# Altium footprint library libreriaPcb.PcbLib: 683 footprints (part 18 of 44)
Each footprint in its own frame and in the unit in brackets; x right, y up, seen from the top. Pads: shape width x height; smd on the part's side, far side on the other; paste and mask are expansions set on the pad; w line width, h text height; cw(c..) or ccw(c..) is an arc to the next point about the centre after c.
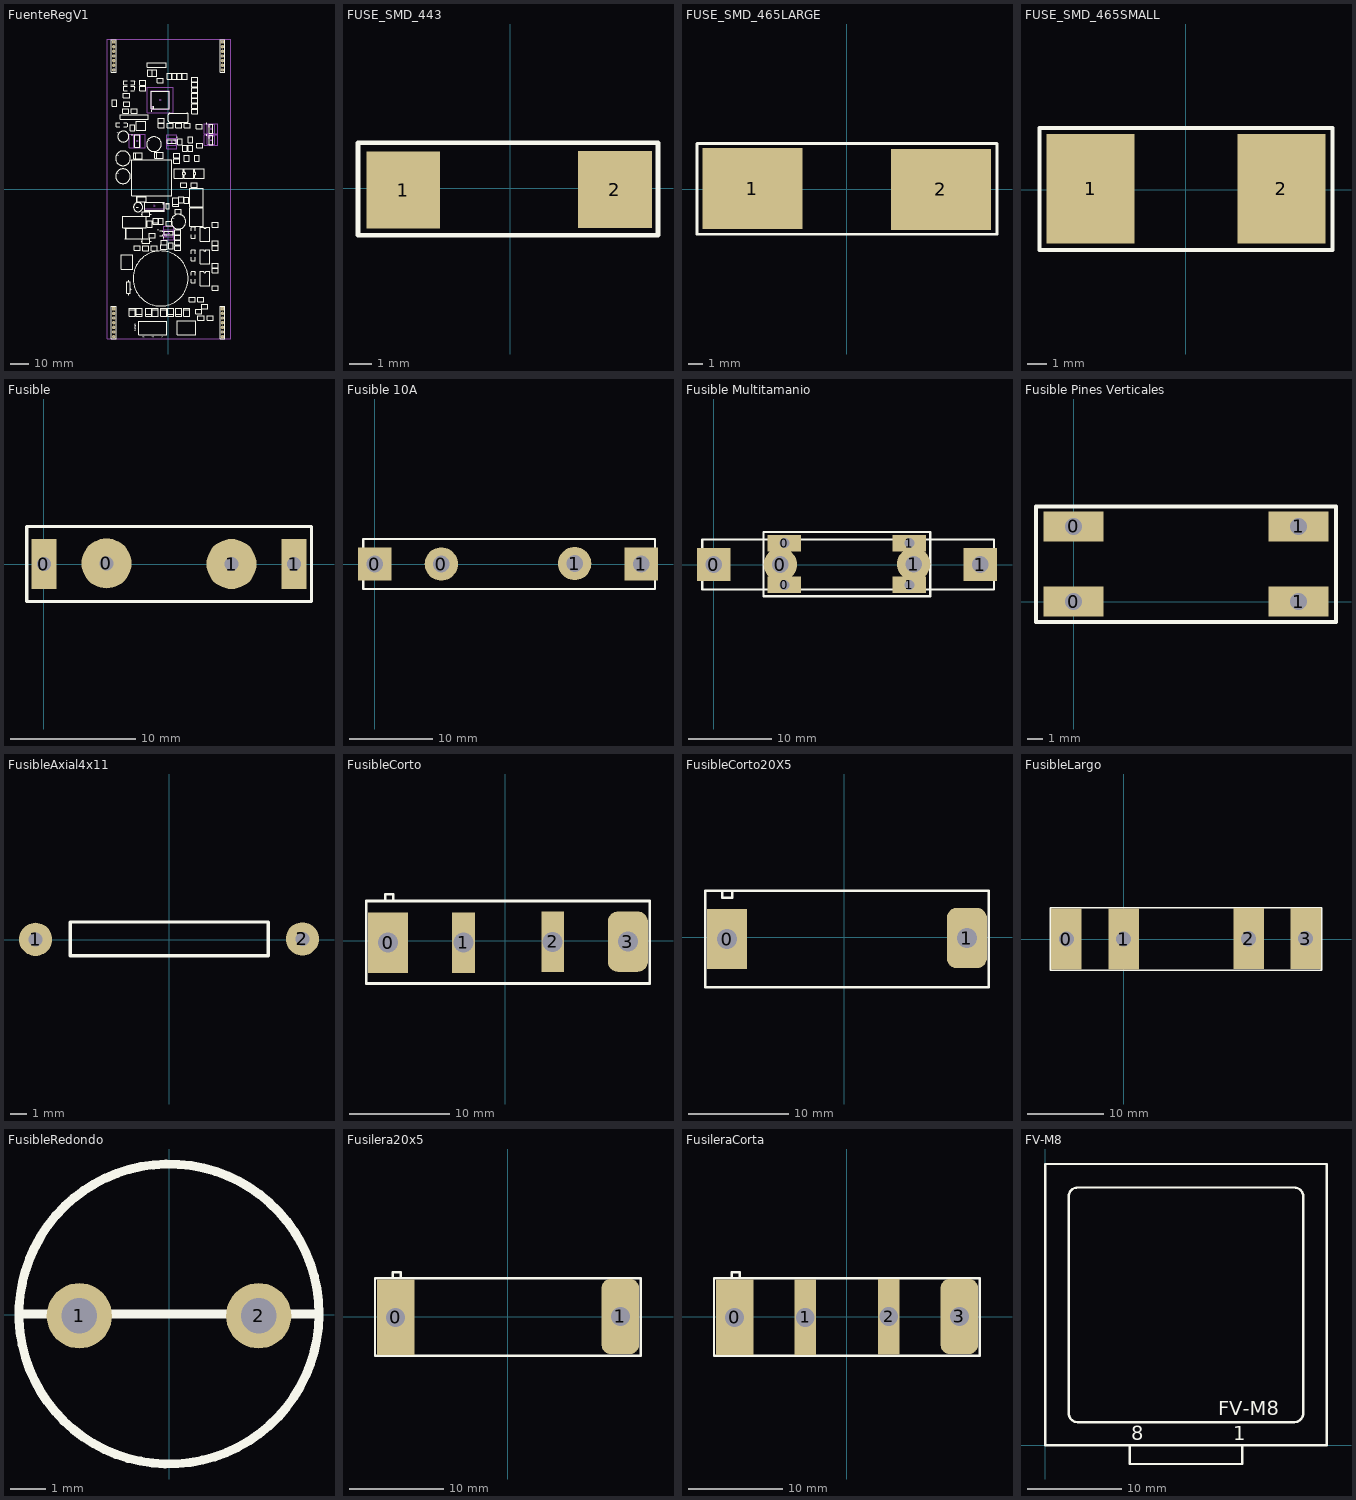
[diagram p17: the footprints below, top view; thin cyan lines are the x and y axes]

## FuenteRegV1 [mm]
pads (28):
  rect 1.85x1.85 hole 0.9: 1(-29.654,80.391) 8(-29.654,-65.151) 15(29.654,80.391) 22(29.654,-65.151)
  round 1.85 hole 0.9: 2(-29.654,77.851) 3(-29.654,75.311) 4(-29.654,72.771) 5(-29.654,70.231) 6(-29.654,67.691) 7(-29.654,65.151) 9(-29.654,-67.691) 10(-29.654,-70.231) 11(-29.654,-72.771) 12(-29.654,-75.311) 13(-29.654,-77.851) 14(-29.654,-80.391) 16(29.654,77.851) 17(29.654,75.311) 18(29.654,72.771) 19(29.654,70.231) 20(29.654,67.691) 21(29.654,65.151) 23(29.654,-67.691) 24(29.654,-70.231) 25(29.654,-72.771) 26(29.654,-75.311) 27(29.654,-77.851) 28(29.654,-80.391)
Bottom Layer:
  lines w1.5: -29.654,65.151 -29.527,65.278
Top Overlay:
  drawing of 656 lines, arcs and shapes, not listed
  text "+" at 2.629,-16.438 h0.75
  text "+" at -10.706,25.853 h0.75
  text "+" at -27.597,18.106 h0.75
  text "+" at -27.597,8.327 h0.75
  text "+" at -28.045,30.329 h0.75
  text "+" at -19.241,-54.102 h1.5
  text "V" at -2.603,-80.899 h0.75
  text "A" at -7.81,-80.899 h0.75
  text "R" at -12.763,-80.899 h0.75
  text "FASES" at -17.462,-77.47 h0.75
Mechanical 1:
  lines w0.254: -33.21,-81.661 -33.21,82.042 34.227,82.042 34.227,-81.661 -33.21,-81.661
Mechanical 13:
  circle w0.1: c3.645,27.085 r0.5
  circle w0.1: c-1.232,-24.926 r0.5
  circle w0.1: c-8.354,44.668 r0.5
  circle w0.1: c22.407,28.474 r0.5
  circle w0.1: c22.407,34.697 r0.5
  lines w0.1: -12.78,-10.567 -2.079,-10.567 ; -18.677,23.066 -18.677,29.766 -14.977,29.766 -14.977,23.066 -18.677,23.066 ; -12.78,-11.867 -2.079,-11.867 -2.079,-7.167 -12.78,-7.167 -12.78,-11.867 ; -9.255,43.768 0.746,43.768 0.746,53.768 -9.255,53.768 -9.255,43.768 ; -2.133,-25.826 -2.133,-21.926 2.768,-21.926 2.768,-25.826 -2.133,-25.826 ; -0.355,24.085 -0.355,27.985 4.546,27.985 4.546,24.085 -0.355,24.085 ; 21.507,24.474 21.507,29.374 25.407,29.374 25.407,24.474 21.507,24.474 ; 21.507,30.697 21.507,35.597 25.407,35.597 25.407,30.697 21.507,30.697
Mechanical 15:
  lines w0.1: -17.327,26.416 -16.327,26.416 ; -16.828,25.916 -16.828,26.916 ; -7.929,-9.017 -6.929,-9.017 ; -7.429,-9.517 -7.429,-8.517 ; -4.755,48.768 -3.755,48.768 ; -4.255,48.268 -4.255,49.268 ; -0.182,-23.876 0.817,-23.876 ; 0.318,-24.376 0.318,-23.376 ; 1.596,26.035 2.595,26.035 ; 2.095,25.535 2.095,26.535 ; 22.957,26.924 23.957,26.924 ; 22.957,33.147 23.957,33.147 ; 23.457,26.424 23.457,27.424 ; 23.457,32.647 23.457,33.647 ; -21.177,22.816 -21.177,30.016 -12.477,30.016 -12.477,22.816 -21.177,22.816 ; -11.255,41.768 2.745,41.768 2.745,55.768 -11.255,55.768 -11.255,41.768 ; -2.432,-27.626 -2.432,-20.126 3.067,-20.126 3.067,-27.626 -2.432,-27.626 ; -0.654,22.285 -0.654,29.785 4.845,29.785 4.845,22.285 -0.654,22.285 ; 19.707,24.174 19.707,29.674 27.207,29.674 27.207,24.174 19.707,24.174 ; 19.707,30.397 19.707,35.897 27.207,35.897 27.207,30.397 19.707,30.397
3D body: height 0.5, standoff 0, extent -33.337,-81.788 34.353,82.169
3D body: height 1, standoff 0, extent -23.969,50.508 -21.37,52.108
3D body: height 1, standoff 0, extent -8.23,62.2 -6.63,64.8
3D body: height 1, standoff 0, extent -8.23,61.9 -6.63,62.2
3D body: height 1, standoff 0, extent -8.23,64.8 -6.63,65.1
3D body: height 1, standoff 0, extent -10.77,62.2 -9.17,64.8
3D body: height 1, standoff 0, extent -10.77,61.9 -9.17,62.2
3D body: height 1, standoff 0, extent -10.77,64.8 -9.17,65.1
3D body: height 1, standoff 0, extent 15.782,33.49 18.381,35.09
3D body: height 1, standoff 0, extent 15.482,33.49 15.782,35.09
3D body: height 1, standoff 0, extent 18.381,33.49 18.681,35.09
3D body: height 1, standoff 0, extent 16.036,23.076 18.635,24.676
3D body: height 1, standoff 0, extent 15.736,23.076 16.036,24.676
3D body: height 1, standoff 0, extent 18.635,23.076 18.935,24.676
3D body: height 1, standoff 0, extent -19.778,41.872 -17.179,43.472
3D body: height 1, standoff 0, extent -17.179,41.872 -16.879,43.472
3D body: height 1, standoff 0, extent -20.078,41.872 -19.778,43.472
3D body: height 3, standoff 0, extent -16.157,-79.507 -0.83,-71.753
3D body: height 12, standoff 0, extent -16.03,-79.287 -0.83,-78.88
3D body: height 12, standoff 0, extent -16.03,-72.98 -11.016,-71.843
3D body: height 12, standoff 0, extent -11.03,-72.98 -6.016,-71.843
3D body: height 12, standoff 0, extent -6.03,-72.98 -1.016,-71.843
3D body: height 10, standoff -2, extent -14.224,-76.078 -12.83,-74.681
3D body: height 10, standoff -2, extent -9.224,-76.132 -7.83,-74.735
3D body: height 10, standoff -2, extent -4.224,-76.078 -2.83,-74.681
3D body: height 11.8, standoff 0, extent 1.661,-21.62 9.629,-13.635
3D body: height 12, standoff 0, extent 1.76,-21.52 9.529,-13.735
3D body: height 11.8, standoff 0, extent 9.601,-18.212 9.804,-17.018
3D body: height 1, standoff 0, extent 4.215,-12.869 6.815,-11.269
3D body: height 1, standoff 0, extent 6.815,-12.869 7.115,-11.269
3D body: height 1, standoff 0, extent 3.915,-12.869 4.215,-11.269
3D body: height 1, standoff 0, extent -18.245,-32.927 -15.645,-31.327
3D body: height 1, standoff 0, extent -18.545,-32.927 -18.245,-31.327
3D body: height 1, standoff 0, extent -15.645,-32.927 -15.345,-31.327
3D body: height 11.8, standoff 0, extent -11.674,20.671 -3.706,28.656
3D body: height 12, standoff 0, extent -11.575,20.771 -3.806,28.556
3D body: height 11.8, standoff 0, extent -3.734,24.079 -3.531,25.273
3D body: height 11.8, standoff 0, extent -28.565,12.924 -20.597,20.909
3D body: height 12, standoff 0, extent -28.466,13.024 -20.697,20.809
3D body: height 11.8, standoff 0, extent -20.625,16.332 -20.422,17.526
3D body: height 11.8, standoff 0, extent -28.565,3.145 -20.597,11.13
3D body: height 12, standoff 0, extent -28.466,3.245 -20.697,11.03
3D body: height 11.8, standoff 0, extent -20.625,6.553 -20.422,7.747
3D body: height 10.1, standoff 0, extent -21.644,27.879 -21.344,29.879
3D body: height 10.1, standoff 0, extent -26.725,26.434 -21.944,31.224
3D body: height 10, standoff 0, extent -27.421,25.835 -21.444,31.823
3D body: height 1, standoff 0, extent 5.721,24.328 7.321,24.628
3D body: height 1, standoff 0, extent 5.721,27.228 7.321,27.528
3D body: height 1, standoff 0, extent 5.721,24.628 7.321,27.228
3D body: height 1, standoff 0, extent 11.309,25.471 12.909,25.771
3D body: height 1, standoff 0, extent 11.309,28.371 12.909,28.671
3D body: height 1, standoff 0, extent 11.309,25.771 12.909,28.371
3D body: height 1, standoff 0, extent 6.395,-4.435 7.995,-4.135
3D body: height 1, standoff 0, extent 6.395,-7.335 7.995,-7.035
3D body: height 1, standoff 0, extent 6.395,-7.035 7.995,-4.435
3D body: height 1, standoff 0, extent -3.513,-29.879 -0.913,-28.279
3D body: height 1, standoff 0, extent -3.813,-29.879 -3.513,-28.279
3D body: height 1, standoff 0, extent -0.913,-29.879 -0.613,-28.279
3D body: height 1, standoff 0, extent 4.088,-27.093 6.688,-25.493
3D body: height 1, standoff 0, extent 6.688,-27.093 6.988,-25.493
3D body: height 1, standoff 0, extent 3.788,-27.093 4.088,-25.493
3D body: height 1, standoff 0, extent 4.088,-32.808 6.688,-31.208
3D body: height 1, standoff 0, extent 6.688,-32.808 6.988,-31.208
3D body: height 1, standoff 0, extent 3.788,-32.808 4.088,-31.208
3D body: height 1, standoff 0, extent 4.088,-24.172 6.688,-22.572
3D body: height 1, standoff 0, extent 6.688,-24.172 6.988,-22.572
3D body: height 1, standoff 0, extent 3.788,-24.172 4.088,-22.572
3D body: height 2, standoff 0, extent -21.171,-69.461 -18.072,-64.661
3D body: height 2, standoff 0, extent -8.471,-69.461 -5.372,-64.661
3D body: height 2, standoff 0, extent -3.899,-69.461 -0.8,-64.661
3D body: height 2, standoff 0, extent -12.027,-69.451 -8.928,-64.651
3D body: height 2, standoff 0, extent 4.356,-69.451 7.455,-64.651
3D body: height 2, standoff 0, extent 8.547,-69.461 11.646,-64.661
3D body: height 2, standoff 0, extent -17.361,-69.451 -14.262,-64.651
3D body: height 2, standoff 0, extent -0.089,-69.451 3.01,-64.651
3D body: height 2, standoff 0, extent -9.25,-5.684 -8.65,-5.084
3D body: height 2, standoff 0, extent -20.65,-5.684 -20.05,-5.084
3D body: height 2.3, standoff 1.7, extent -20.35,-5.681 -8.85,-5.084
3D body: height 3.4, standoff 0.6, extent -16.659,-6.734 -15.659,-3.934
3D body: height 3.25, standoff 0.75, extent -17.158,-6.584 -12.158,-4.084
3D body: height 1, standoff 0, extent -7.525,-18.808 -5.925,-16.208
3D body: height 1, standoff 0, extent -7.525,-19.108 -5.925,-18.808
3D body: height 1, standoff 0, extent -7.525,-16.208 -5.925,-15.908
3D body: height 2, standoff 0, extent 2.578,-9.38 5.677,-4.58
3D body: height 2, standoff 0, extent -7.285,16.992 -2.485,20.092
3D body: height 2, standoff 0, extent -18.715,16.865 -13.915,19.965
3D body: height 10, standoff -2, extent 14.686,-13.394 16.083,-12
3D body: height 10, standoff -2, extent 14.632,-18.394 16.029,-17
3D body: height 12, standoff 0, extent 11.794,-15.2 12.93,-10.186
3D body: height 12, standoff 0, extent 11.794,-20.2 12.93,-15.186
3D body: height 12, standoff 0, extent 18.831,-20.2 19.238,-10.1
3D body: height 3, standoff 0, extent 11.703,-20.327 19.457,-10.1
3D body: height 10, standoff -2, extent 14.686,-2.726 16.083,-1.332
3D body: height 10, standoff -2, extent 14.632,-7.726 16.029,-6.332
3D body: height 12, standoff 0, extent 11.794,-4.532 12.93,0.482
3D body: height 12, standoff 0, extent 11.794,-9.532 12.93,-4.518
3D body: height 12, standoff 0, extent 18.831,-9.532 19.238,0.568
3D body: height 3, standoff 0, extent 11.703,-9.659 19.457,0.568
3D body: height 1, standoff 0, extent 12.941,-25.4 14.567,-22.098
3D body: height 1, standoff 0, extent 12.941,-37.719 14.567,-34.417
3D body: height 1, standoff 0, extent 12.941,-49.657 14.567,-46.355
3D body: height 3, standoff 0, extent 5.01,-79.465 15.236,-71.711
3D body: height 12, standoff 0, extent 5.137,-79.245 15.236,-78.838
3D body: height 12, standoff 0, extent 5.137,-72.938 10.15,-71.801
3D body: height 12, standoff 0, extent 10.137,-72.938 15.15,-71.801
3D body: height 10, standoff -2, extent 6.942,-76.036 8.337,-74.639
3D body: height 10, standoff -2, extent 11.942,-76.09 13.337,-74.693
3D body: height 3, standoff 0, extent 8.752,5.909 14.139,11.443
3D body: height 3, standoff 0, extent 3.133,5.829 8.52,11.363
3D body: height 3, standoff 0, extent 14.34,5.909 19.727,11.443
3D body: height 1, standoff 0, extent 24.545,-20.104 27.144,-18.504
3D body: height 1, standoff 0, extent 24.245,-20.104 24.545,-18.504
3D body: height 1, standoff 0, extent 27.144,-20.104 27.444,-18.504
3D body: height 1, standoff 0, extent 24.545,-32.804 27.144,-31.204
3D body: height 1, standoff 0, extent 24.245,-32.804 24.545,-31.204
3D body: height 1, standoff 0, extent 27.144,-32.804 27.444,-31.204
3D body: height 1, standoff 0, extent 24.545,-44.996 27.144,-43.396
3D body: height 1, standoff 0, extent 24.245,-44.996 24.545,-43.396
3D body: height 1, standoff 0, extent 27.144,-44.996 27.444,-43.396
3D body: height 1, standoff 0, extent 24.545,-30.137 27.144,-28.537
3D body: height 1, standoff 0, extent 24.245,-30.137 24.545,-28.537
3D body: height 1, standoff 0, extent 27.144,-30.137 27.444,-28.537
3D body: height 1, standoff 0, extent 24.545,-42.329 27.144,-40.729
3D body: height 1, standoff 0, extent 24.245,-42.329 24.545,-40.729
3D body: height 1, standoff 0, extent 27.144,-42.329 27.444,-40.729
3D body: height 1, standoff 0, extent 24.545,-54.521 27.144,-52.921
3D body: height 1, standoff 0, extent 24.245,-54.521 24.545,-52.921
3D body: height 1, standoff 0, extent 27.144,-54.521 27.444,-52.921
3D body: height 1, standoff 0, extent 11.971,-60.998 14.572,-59.398
3D body: height 1, standoff 0, extent 11.672,-60.998 11.972,-59.398
3D body: height 1, standoff 0, extent 14.571,-60.998 14.871,-59.398
3D body: height 1, standoff 0, extent 16.544,-60.998 19.143,-59.398
3D body: height 1, standoff 0, extent 16.244,-60.998 16.544,-59.398
3D body: height 1, standoff 0, extent 19.143,-60.998 19.443,-59.398
3D body: height 1, standoff 0, extent 15.528,-67.348 18.127,-65.748
3D body: height 1, standoff 0, extent 15.228,-67.348 15.528,-65.748
3D body: height 1, standoff 0, extent 18.127,-67.348 18.427,-65.748
3D body: height 1, standoff 0, extent 18.703,-64.681 21.302,-63.081
3D body: height 1, standoff 0, extent 18.403,-64.681 18.703,-63.081
3D body: height 1, standoff 0, extent 21.302,-64.681 21.602,-63.081
3D body: height 1, standoff 0, extent 16.671,-71.031 19.27,-69.431
3D body: height 1, standoff 0, extent 16.371,-71.031 16.671,-69.431
3D body: height 1, standoff 0, extent 19.27,-71.031 19.57,-69.431
3D body: height 1, standoff 0, extent 21.624,-71.031 24.223,-69.431
3D body: height 1, standoff 0, extent 21.324,-71.031 21.624,-69.431
3D body: height 1, standoff 0, extent 24.223,-71.031 24.523,-69.431
3D body: height -1.01, standoff -3, extent -14.466,-29.394 -9.466,-27.398
3D body: height 1, standoff 0, extent -8.729,-32.931 -6.13,-31.331
3D body: height 1, standoff 0, extent -9.029,-32.931 -8.729,-31.331
3D body: height 1, standoff 0, extent -6.13,-32.931 -5.83,-31.331
3D body: height 1, standoff 0, extent -13.428,-32.931 -10.829,-31.331
3D body: height 1, standoff 0, extent -10.829,-32.931 -10.529,-31.331
3D body: height 1, standoff 0, extent -13.728,-32.931 -13.428,-31.331
3D body: height 1, standoff 0, extent -9.999,-26.073 -7.4,-24.473
3D body: height 1, standoff 0, extent -10.299,-26.073 -9.999,-24.473
3D body: height 1, standoff 0, extent -7.4,-26.073 -7.1,-24.473
3D body: height -1, standoff -3, extent -14.466,-14.664 -9.466,-12.664
3D body: height 1, standoff 0, extent -4.673,-18.826 -3.073,-16.226
3D body: height 1, standoff 0, extent -4.673,-16.226 -3.073,-15.926
3D body: height 1, standoff 0, extent -4.673,-19.126 -3.073,-18.826
3D body: height 7.4, standoff 6, extent -16.77,-10.052 -15.97,-9.252
3D body: height 17.9, standoff 17.1, extent -21.218,-10.103 -16.218,-9.306
3D body: height 18, standoff 0, extent -21.189,-10.052 -20.39,-9.255
3D body: height 15, standoff 0, extent -18.865,-12.152 -13.875,-7.172
3D body: height 1, standoff 0, extent 3.336,14.567 5.935,16.167
3D body: height 1, standoff 0, extent 3.036,14.567 3.336,16.167
3D body: height 1, standoff 0, extent 5.935,14.567 6.235,16.167
3D body: height 1, standoff 0, extent 3.336,17.615 5.935,19.215
3D body: height 1, standoff 0, extent 5.935,17.615 6.235,19.215
3D body: height 1, standoff 0, extent 3.036,17.615 3.336,19.215
3D body: height 1, standoff 0, extent 11.328,21.179 12.928,23.779
3D body: height 1, standoff 0, extent 11.328,20.879 12.928,21.179
3D body: height 1, standoff 0, extent 11.328,23.779 12.928,24.079
3D body: height 1, standoff 0, extent 8.407,21.179 10.007,23.779
3D body: height 1, standoff 0, extent 8.407,20.879 10.007,21.179
3D body: height 1, standoff 0, extent 8.407,23.779 10.007,24.079
3D body: height 1, standoff 0, extent -20.167,32.228 -18.567,34.828
3D body: height 1, standoff 0, extent -20.167,34.828 -18.567,35.128
3D body: height 1, standoff 0, extent -20.167,31.928 -18.567,32.228
3D body: height 1, standoff 0, extent 9.297,-7.142 10.897,-4.542
3D body: height 1, standoff 0, extent 9.297,-4.542 10.897,-4.242
3D body: height 1, standoff 0, extent 9.297,-7.442 10.897,-7.142
3D body: height 1, standoff 0, extent 7.273,1.613 9.872,3.213
3D body: height 1, standoff 0, extent 6.973,1.613 7.273,3.213
3D body: height 1, standoff 0, extent 9.872,1.613 10.172,3.213
3D body: height 1, standoff 0, extent 12.988,1.486 15.587,3.086
3D body: height 1, standoff 0, extent 12.688,1.486 12.988,3.086
3D body: height 1, standoff 0, extent 15.587,1.486 15.887,3.086
3D body: height 1, standoff 0, extent 9.424,15.591 11.024,18.191
3D body: height 1, standoff 0, extent 9.424,18.191 11.024,18.491
3D body: height 1, standoff 0, extent 9.424,15.291 11.024,15.591
3D body: height 1, standoff 0, extent 14.885,15.591 16.485,18.191
3D body: height 1, standoff 0, extent 14.885,18.191 16.485,18.491
3D body: height 1, standoff 0, extent 14.885,15.291 16.485,15.591
3D body: height 1.8, standoff -0.4, extent -22.601,-56.591 -20.401,-50.591
3D body: height 1.1, standoff 0.3, extent -21.907,-50.495 -21.108,-48.495
3D body: height 1, standoff 0, extent -21.826,-48.814 -21.226,-48.214
3D body: height 1, standoff 0, extent -21.826,-58.974 -21.226,-58.374
3D body: height 1.1, standoff 0.3, extent -21.945,-58.683 -21.145,-56.683
3D body: height 1, standoff 0, extent -3.822,-32.296 -3.522,-30.696
3D body: height 1, standoff 0, extent -0.923,-32.296 -0.623,-30.696
3D body: height 1, standoff 0, extent -3.522,-32.296 -0.923,-30.696
3D body: height 1, standoff 0, extent -10.769,-20.223 -9.169,-17.623
3D body: height 1, standoff 0, extent -10.769,-17.623 -9.169,-17.323
3D body: height 1, standoff 0, extent -10.769,-20.523 -9.169,-20.223
3D body: height 1, standoff 0, extent 6.697,-29.883 6.997,-28.283
3D body: height 1, standoff 0, extent 3.798,-29.883 4.098,-28.283
3D body: height 1, standoff 0, extent 4.098,-29.883 6.697,-28.283
3D body: height 1, standoff 0, extent 0.788,-32.334 2.388,-32.034
3D body: height 1, standoff 0, extent 0.788,-29.434 2.388,-29.134
3D body: height 1, standoff 0, extent 0.788,-32.034 2.388,-29.434
3D body: height 11.2, standoff 9.8, extent -23.504,-24.743 -13.504,-23.343
3D body: height 11, standoff 9, extent -14.714,-24.728 -13.314,-23.328
3D body: height 8, standoff 7, extent -16.689,-26.721 -11.29,-21.321
3D body: height 9, standoff 0, extent -16.613,-26.628 -11.415,-21.428
3D body: height 11, standoff 0, extent -23.831,-24.779 -22.434,-23.379
3D body: height 10, standoff 1, extent -19.967,-3.554 2.267,16.19
3D body: height 8, standoff 0, extent -24.93,-20.93 -11.773,-14.808
3D body: height 2.2, standoff 0, extent -24.215,-44.026 -20.666,-43.726
3D body: height 2.3, standoff 0, extent -25.565,-43.726 -19.34,-35.751
3D body: height 2.2, standoff 0, extent -24.165,-35.726 -20.616,-35.426
3D body: height 1, standoff 0, extent -26.987,34.392 -23.685,36.017
3D body: height 1, standoff 0, extent -0.738,-19.346 1.862,-17.746
3D body: height 1, standoff 0, extent 1.862,-19.346 2.162,-17.746
3D body: height 1, standoff 0, extent -1.038,-19.346 -0.738,-17.746
3D body: height 1, standoff 0, extent -0.99,-10.629 0.609,-10.329
3D body: height 1, standoff 0, extent -0.99,-7.73 0.61,-7.43
3D body: height 1, standoff 0, extent -0.99,-10.33 0.61,-7.73
3D body: height 1.1, standoff 0, extent -0.99,-8.142 0.61,-7.767
3D body: height 24, standoff 0, extent -19.167,-63.875 10.833,-33.884
3D body: height 24, standoff 0.2, extent 10.63,-50.114 11.062,-46.838
3D body: height 25, standoff 24, extent -18.275,-62.89 9.725,-34.898
3D body: height 1, standoff 0, extent 9.197,34.018 11.797,35.618
3D body: height 1, standoff 0, extent 11.797,34.018 12.097,35.618
3D body: height 1, standoff 0, extent 8.897,34.018 9.197,35.618
3D body: height 1, standoff 0, extent -0.24,33.978 2.36,35.578
3D body: height 1, standoff 0, extent -0.54,33.978 -0.24,35.578
3D body: height 1, standoff 0, extent 2.36,33.978 2.66,35.578
3D body: height 1, standoff 0, extent -4.9,34.018 -2.3,35.618
3D body: height 1, standoff 0, extent -2.3,34.018 -2,35.618
3D body: height 1, standoff 0, extent -5.2,34.018 -4.9,35.618
3D body: height 1, standoff 0, extent -5.535,58.656 -2.935,60.256
3D body: height 1, standoff 0, extent -2.935,58.656 -2.635,60.256
3D body: height 1, standoff 0, extent -5.835,58.656 -5.535,60.256
3D body: height 1, standoff 0, extent -4.9,36.685 -2.3,38.285
3D body: height 1, standoff 0, extent -2.3,36.685 -2,38.285
3D body: height 1, standoff 0, extent -5.2,36.685 -4.9,38.285
3D body: height 1, standoff 0, extent -24.497,41.852 -21.897,43.452
3D body: height 1, standoff 0, extent -24.797,41.852 -24.497,43.452
3D body: height 1, standoff 0, extent -21.897,41.852 -21.597,43.452
3D body: height 1, standoff 0, extent -22.924,54.204 -19.621,55.829
3D body: height 1, standoff 0, extent -22.924,57.379 -19.621,59.004
3D body: height 1, standoff 0, extent 7.078,33.998 7.378,35.598
3D body: height 1, standoff 0, extent 4.179,33.998 4.479,35.598
3D body: height 1, standoff 0, extent 4.479,33.998 7.078,35.598
3D body: height 1, standoff 0, extent -15.506,57.366 -15.206,58.966
3D body: height 1, standoff 0, extent -12.607,57.366 -12.307,58.966
3D body: height 1, standoff 0, extent -15.206,57.366 -12.607,58.966
3D body: height 1, standoff 0, extent -15.506,54.191 -15.206,55.791
3D body: height 1, standoff 0, extent -12.607,54.191 -12.307,55.791
3D body: height 1, standoff 0, extent -15.206,54.191 -12.607,55.791
3D body: height 10, standoff 0, extent 0.085,36.436 11.132,41.587
3D body: height 1, standoff 0, extent 15.841,41.745 16.141,43.345
3D body: height 1, standoff 0, extent 12.942,41.745 13.242,43.345
3D body: height 1, standoff 0, extent 13.242,41.745 15.841,43.345
3D body: height 1, standoff 0, extent 15.841,44.666 16.141,46.266
3D body: height 1, standoff 0, extent 12.942,44.666 13.242,46.266
3D body: height 1, standoff 0, extent 13.242,44.666 15.841,46.266
3D body: height 1, standoff 0, extent 15.841,47.587 16.141,49.187
3D body: height 1, standoff 0, extent 12.942,47.587 13.242,49.187
3D body: height 1, standoff 0, extent 13.242,47.587 15.841,49.187
3D body: height 1, standoff 0, extent 15.841,50.508 16.141,52.108
3D body: height 1, standoff 0, extent 12.942,50.508 13.242,52.108
3D body: height 1, standoff 0, extent 13.242,50.508 15.841,52.108
3D body: height 1, standoff 0, extent 15.841,59.144 16.141,60.744
3D body: height 1, standoff 0, extent 12.942,59.144 13.242,60.744
3D body: height 1, standoff 0, extent 13.242,59.144 15.841,60.744
3D body: height 1, standoff 0, extent 15.841,56.35 16.141,57.95
3D body: height 1, standoff 0, extent 12.942,56.35 13.242,57.95
3D body: height 1, standoff 0, extent 13.242,56.35 15.841,57.95
3D body: height 1, standoff 0, extent 15.841,53.429 16.141,55.029
3D body: height 1, standoff 0, extent 12.942,53.429 13.242,55.029
3D body: height 1, standoff 0, extent 13.242,53.429 15.841,55.029
3D body: height 1, standoff 0, extent 8.28,63.022 9.88,63.322
3D body: height 1, standoff 0, extent 8.28,60.122 9.88,60.422
3D body: height 1, standoff 0, extent 8.28,60.422 9.88,63.022
3D body: height 1, standoff 0, extent 5.486,63.022 7.086,63.322
3D body: height 1, standoff 0, extent 5.486,60.122 7.086,60.422
3D body: height 1, standoff 0, extent 5.486,60.422 7.086,63.022
3D body: height 1, standoff 0, extent 2.692,63.022 4.292,63.322
3D body: height 1, standoff 0, extent 2.692,60.122 4.292,60.422
3D body: height 1, standoff 0, extent 2.692,60.422 4.292,63.022
3D body: height 1, standoff 0, extent -0.102,63.022 1.498,63.322
3D body: height 1, standoff 0, extent -0.102,60.122 1.498,60.422
3D body: height 1, standoff 0, extent -0.102,60.422 1.498,63.022
3D body: height 1, standoff 0, extent -21.243,45.809 -20.943,47.409
3D body: height 1, standoff 0, extent -24.142,45.809 -23.842,47.409
3D body: height 1, standoff 0, extent -23.842,45.809 -21.243,47.409
3D body: height 1, standoff 0, extent -29.947,48.417 -28.347,48.717
3D body: height 1, standoff 0, extent -29.947,45.517 -28.347,45.817
3D body: height 1, standoff 0, extent -29.947,45.817 -28.347,48.417
3D body: height 1, standoff 0, extent -21.37,50.508 -21.07,52.108
3D body: height 1, standoff 0, extent -24.269,50.508 -23.969,52.108
3D body: height 0, standoff 0, extent 28.385,63.882 30.924,81.66
3D body: height 0, standoff -5, extent -31.064,63.881 -28.334,81.712
3D body: height 0, standoff -5, extent 28.264,63.779 30.994,81.61
3D body: height 0, standoff -5, extent 28.264,-81.839 30.994,-64.008
3D body: height 0, standoff -5, extent -31.02,-81.712 -28.289,-63.881
3D body: height 12.9, standoff 4, extent -12.83,-11.917 -2.029,-7.117
3D body: height 19.3, standoff 12.9, extent -12.779,-11.866 -2.08,-10.568
3D body: height 1.75, standoff 0, extent -0.355,24.085 4.546,27.985
3D body: height 1.8, standoff 0, extent -18.677,23.066 -14.978,29.766
3D body: height 1.75, standoff 0, extent -2.133,-25.826 2.768,-21.926
3D body: height 2.45, standoff 0, extent -9.255,43.768 0.746,53.768
3D body: height 1.75, standoff 0, extent 21.507,24.474 25.407,29.374
3D body: height 1.75, standoff 0, extent 21.507,30.697 25.407,35.597

## FUSE_SMD_443 [mm]
pads (2):
  rect 3.25x3.4 smd: 1(-4.725,-0.075) 2(4.625,-0.05)
Top Overlay:
  lines w0.2: -6.725,-2.075 -6.725,2.025 6.525,2.025 6.525,-2.075 -6.725,-2.075
3D body: height 4.5, standoff 0, extent -3.325,-1.575 3.275,1.475
3D body: height 4.5, standoff 0, extent -5.025,-1.575 -3.325,1.475
3D body: height 4.5, standoff 0, extent 3.275,-1.575 4.975,1.475

## FUSE_SMD_465LARGE [mm]
pads (2):
  rect 6.9x5.6 smd: 1(-6.525,0.05) 2(6.5,0)
Top Overlay:
  lines w0.2: -10.35,-3.1 -10.35,3.175 10.375,3.175 10.375,-3.1 -10.35,-3.1
3D body: height 4.5, standoff 0, extent -3.475,-1.975 3.525,2.075
3D body: height 4.5, standoff 0, extent -6.275,-1.975 -3.475,2.075
3D body: height 4.5, standoff 0, extent 3.525,-1.975 6.325,2.075

## FUSE_SMD_465SMALL [mm]
pads (2):
  rect 4.5x5.6 smd: 1(-4.875,0.05) 2(4.925,0.05)
Top Overlay:
  lines w0.2: -7.5,-3.1 -7.5,3.175 7.55,3.175 7.55,-3.1 -7.5,-3.1
3D body: height 4.5, standoff 0, extent -3.475,-1.975 3.525,2.075
3D body: height 4.5, standoff 0, extent -6.275,-1.975 -3.475,2.075
3D body: height 4.5, standoff 0, extent 3.525,-1.975 6.325,2.075

## Fusible [mm]
pads (4):
  rect 2x4 hole 1.1: 0(0,0) 1(20,0)
  round 4 hole 1.1: 0(5,0.05) 1(15,0)
Top Overlay:
  lines w0.254: -1.375,-3 21.4,-3 21.4,3 -1.375,3 -1.375,-3
3D body: height 15, standoff 0, extent -1.502,-3.127 21.527,3.127

## Fusible 10A [mm]
pads (4):
  rect 4x4 hole 2: 0(0,0) 1(32,0)
  round 4 hole 2: 0(8,0) 1(24,0.05)
Top Overlay:
  lines w0.254: -1.375,-3 33.655,-3 33.655,3 -1.375,3 -1.375,-3
3D body: height 15, standoff 0, extent -1.502,-3.127 33.655,3.127

## Fusible Multitamanio [mm]
pads (8):
  rect 4x4 hole 2: 0(0,0) 1(32,0)
  round 4 hole 2: 0(8,0) 1(24,0.05)
  rect 4x2 hole 1.2: 0(8.484,-2.438) 0(8.484,2.562) 1(23.484,-2.438) 1(23.484,2.562)
Top Overlay:
  lines w0.254: -1.375,-3 33.655,-3 33.655,3 -1.375,3 -1.375,-3 ; 5.984,-3.813 5.984,3.887 25.984,3.887 25.984,-3.813 5.984,-3.813
3D body: height 15, standoff 0, extent 5.857,-3.94 26.111,4.014
3D body: height 15, standoff 0, extent -1.502,-3.127 33.655,3.127

## Fusible Pines Verticales [mm]
pads (4):
  rect 4x2 hole 1.1: 0(0,0) 0(0,5) 1(15,0) 1(15,5)
Top Overlay:
  lines w0.254: -2.5,-1.375 17.5,-1.375 17.5,6.325 -2.5,6.325 -2.5,-1.375
3D body: height 15, standoff 0, extent -2.627,-1.502 17.627,6.452

## FusibleAxial4x11 [mm]
pads (2):
  round 2 hole 0.85: 1(-8.048,0.014) 2(8.004,0.039)
Top Overlay:
  lines w0.2: -5.966,-0.977 5.947,-0.977 5.947,1.055 -5.966,1.055 -5.966,-0.977
3D body: height 1.5, standoff 0, extent -8.125,-0.261 -7.525,0.339
3D body: height 1.5, standoff 0, extent 7.73,-0.256 8.33,0.344
3D body: height 1.7, standoff 1.1, extent -7.945,-0.261 8.055,0.336
3D body: height 2.4, standoff 0.4, extent -6.002,-0.957 5.998,1.035

## FusibleCorto [mm]
pads (4):
  rect 4x6 hole 2: 0(-11.657,-0.19)
  rect 2.25x6 hole 2: 1(-4.157,-0.19) 2(4.713,-0.11)
  rrect50% 4x6 hole 2: 3(12.203,-0.09)
Top Overlay:
  lines w0.254: -13.847,-4.28 -13.847,3.93 ; -13.847,-4.26 14.383,-4.26 14.383,3.95 -13.847,3.95 ; -11.797,3.95 -11.947,3.95 -11.947,4.62 -11.127,4.62 -11.127,3.95 -11.107,3.95
3D body: height 1, standoff 0, extent -13.758,-4.291 -3.293,4.012
3D body: height 5, standoff 1, extent -13.555,3.1 -3.09,3.989
3D body: height 1, standoff 0, extent 3.869,-4.24 14.335,4.064
3D body: height 5, standoff 1, extent -13.606,-4.203 -3.141,-3.314
3D body: height 5, standoff 1, extent 3.793,3.036 14.258,3.925
3D body: height 5, standoff 1, extent 3.615,-4.19 14.08,-3.301
3D body: height 4, standoff 0, extent -13.64,-1.986 14.36,2.014
3D body: height 4, standoff 0, extent -13.761,-2.037 -10.761,1.962
3D body: height 4, standoff 0, extent 11.49,-1.942 14.49,2.057

## FusibleCorto20X5 [mm]
pads (2):
  rect 4x6 hole 2: 0(-11.657,-0.19)
  rrect50% 4x6 hole 2: 1(12.203,-0.09)
Top Overlay:
  lines w0.254: -13.847,-5 -13.847,4.625 14.383,4.625 14.383,-5 -13.847,-5 ; -12.17,4.62 -12.124,4.574 -12.124,3.925 -11.127,3.925 -11.127,4.62 -12.17,4.62
3D body: height 1, standoff 0, extent -13.758,-4.291 -3.293,4.012
3D body: height 5, standoff 1, extent -13.555,3.1 -3.09,3.989
3D body: height 1, standoff 0, extent 3.869,-4.24 14.335,4.064
3D body: height 5, standoff 1, extent -13.606,-4.203 -3.141,-3.314
3D body: height 5, standoff 1, extent 3.793,3.036 14.258,3.925
3D body: height 5, standoff 1, extent 3.615,-4.19 14.08,-3.301
3D body: height 4, standoff 0, extent -13.64,-1.986 14.36,2.014
3D body: height 4, standoff 0, extent -13.761,-2.037 -10.761,1.962
3D body: height 4, standoff 0, extent 11.49,-1.942 14.49,2.057

## FusibleLargo [mm]
pads (4):
  rect 4x8 hole 2: 0(-7.5,0) 1(0,0) 2(16.42,0.06) 3(23.91,0.08)
Top Overlay:
  lines w0.254: -9.6,-4.09 26.03,-4.09 26.03,4.12 -9.6,4.12 -9.6,-4.09
Multi-Layer:
  rectangle: 17.97,-3.47 22.31,3.43
  rectangle: -6.12,-3.47 -1.94,3.43

## FusibleRedondo [mm]
pads (2):
  round 1.85 hole 1: 1(-2.54,-0.025) 2(2.54,-0.025)
Top Overlay:
  lines w0.254: -4.242,0.025 4.25,0.025 ccw(c0,0.025) 4.25,0
3D body: height 8, standoff 0, extent -4.275,-4.274 4.225,4.224

## Fusilera20x5 [mm]
pads (2):
  rect 4x8 hole 2: 0(-11.93,-0.05)
  rrect50% 4x8 hole 2: 1(11.93,0.05)
Top Overlay:
  lines w0.254: -14.12,-4.14 -14.12,4.07 ; -14.12,-4.12 14.11,-4.12 14.11,4.09 -14.12,4.09 ; -12.07,4.09 -12.22,4.09 -12.22,4.76 -11.4,4.76 -11.4,4.09 -11.38,4.09

## FusileraCorta [mm]
pads (4):
  rect 4x8 hole 2: 0(-11.93,-0.05)
  rect 2.25x8 hole 2: 1(-4.43,-0.05) 2(4.44,0.03)
  rrect50% 4x8 hole 2: 3(11.93,0.05)
Top Overlay:
  lines w0.254: -14.12,-4.14 -14.12,4.07 ; -14.12,-4.12 14.11,-4.12 14.11,4.09 -14.12,4.09 ; -12.07,4.09 -12.22,4.09 -12.22,4.76 -11.4,4.76 -11.4,4.09 -11.38,4.09

## FV-M8 [mm] "Modulo GPS&Antena"
Top Overlay:
  lines w0.254: 9,0 21,0 ; 9,0 0,0 0,30 30,30 30,0 21,0 ; 9,0 9,-2 21,-2 21,0 ; 2.484,3.416 ccw(c3.429,3.416) 3.429,2.471 26.555,2.471 ccw(c26.556,3.416) 27.501,3.416 27.501,26.543 ccw(c26.556,26.543) 26.556,27.488 3.429,27.488 ccw(c3.429,26.543) 2.484,26.543 2.484,3.416
  text "8" at 9.144,0.508 h1.52
  text "1" at 20.066,0.508 h1.52
  text "FV-M8" at 18.415,3.175 h1.52